# EAGLE library part PAM2401SCADJ (library IC)
IC REG BOOST ADJUSTABLE 1A 8MSOP Manufacturer's datasheet <https://www.diodes.com/assets/Datasheets/PAM2401.pdf>
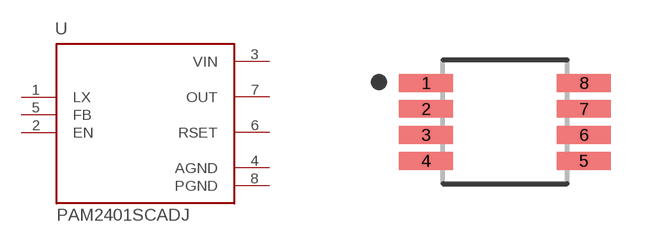
[diagram p33: symbol with the pads of MSOP8; footprint MSOP8]

Designator prefix U

## PAM2401SCADJ (CREATED_BY: PCBLayout.com; DIGIKEY_PARTNO: PAM2401SCADJDIDKR-ND; MANUFACTURER: Diodes Incorporated; MPN: PAM2401SCADJ; PACKAGE: MSOP-8)  [MSOP8]
1  LX  in
2  EN  in
3  VIN  pwr
4  AGND  pwr
5  FB  in
6  RSET  pas
7  OUT  out
8  PGND  pwr

## Footprint MSOP8 (pad centres in mm)
Micro Small Outline Package Grid .65mm
smd 1.35 x 0.45: 1 -1.975,0.975; 2 -1.975,0.325; 3 -1.975,-0.325; 4 -1.975,-0.975; 5 1.975,-0.975; 6 1.975,-0.325; 7 1.975,0.325; 8 1.975,0.975